# Altium schematic symbol library DIODE TVS CPDV5-3V3UP.Schlib: 1 symbol
Pins are listed as number, name and electrical type; pins without a type are passive.

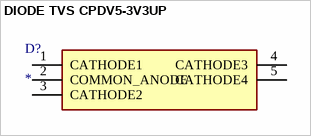
[diagram p0: symbol DIODE TVS CPDV5-3V3UP]

## DIODE TVS CPDV5-3V3UP
designator D?
TVS Diode Bidirectional Vbr = 3.5V, Working Voltage = 3.3V
pins: 1 CATHODE1, 2 COMMON_ANODE, 3 CATHODE2, 4 CATHODE3, 5 CATHODE4